# EAGLE library part 08FLZ-SM1 (library con-jst)
CONNECTOR
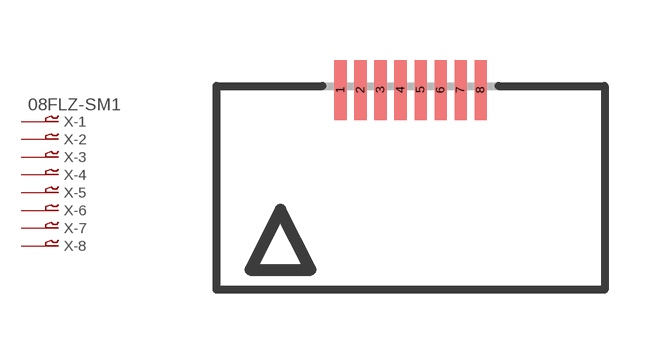
[diagram p3: symbol with the pads of 8FLZ-SM; footprint 8FLZ-SM]

Designator prefix X; gates -1=P-VN -2=P-N -3=P-N -4=P-N -5=P-N -6=P-N -7=P-N -8=P-N

## 08FLZ-SM1  [8FLZ-SM]
1  -1:1  pas
2  -2:1  pas
3  -3:1  pas
4  -4:1  pas
5  -5:1  pas
6  -6:1  pas
7  -7:1  pas
8  -8:1  pas

## Footprint 8FLZ-SM (pad centres in mm)
CONNECTOR
smd 0.3 x 1.5: 1 -1.75,2.5; 2 -1.25,2.5; 3 -0.75,2.5; 4 -0.25,2.5; 5 0.25,2.5; 6 0.75,2.5; 7 1.25,2.5; 8 1.75,2.5